# Altium footprint library PcbLib1.PcbLib: 8 footprints
Each footprint in its own frame and in the unit in brackets; x right, y up, seen from the top. Pads: shape width x height; smd on the part's side, far side on the other; paste and mask are expansions set on the pad; w line width, h text height; cw(c..) or ccw(c..) is an arc to the next point about the centre after c.
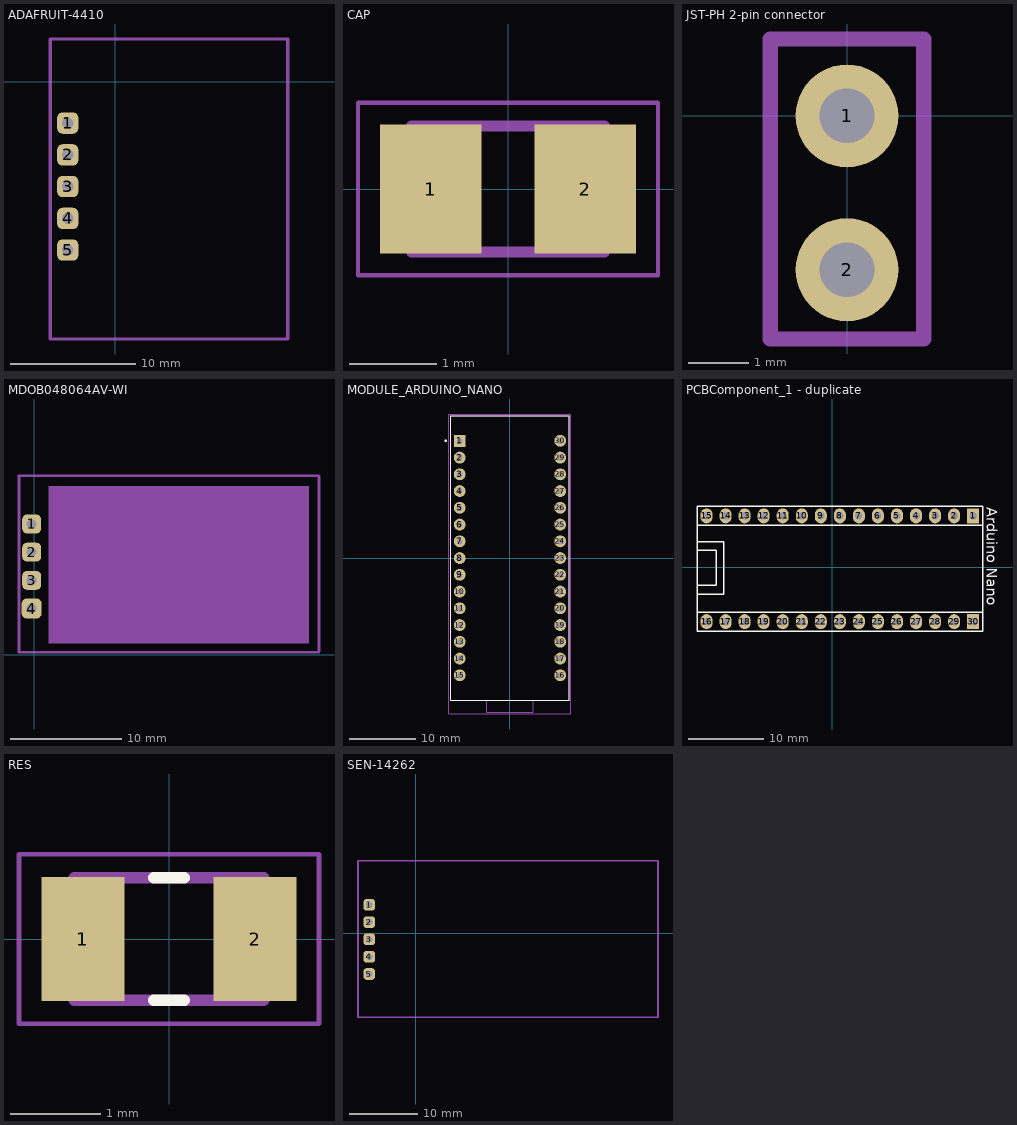
[diagram p0: the footprints below, top view; thin cyan lines are the x and y axes]

## ADAFRUIT-4410 [mm]
pads (5):
  rrect50% 1.7x1.7 hole 0.9 square: 1(-3.81,-3.302) 2(-3.81,-5.842) 3(-3.81,-8.382) 4(-3.81,-10.922) 5(-3.81,-13.462)
Top Overlay:
  text ".Designator" at 5.715,-16.002 h1.52
Mechanical 1:
  lines w0.254: -5.207,-20.574 -5.207,3.429 13.793,3.429 13.793,-20.574 -5.207,-20.574
3D body "4410 Micro Lipo USBC.step": height 6.37, standoff 0, extent -5.207,-20.564 13.843,3.419

## CAP [mm]
pads (2):
  rect 1.16x1.47 smd: 1(-0.88,0) 2(0.88,0)
Mechanical 13:
  lines w0.127: -1.1,-0.72 1.1,-0.72 1.1,0.72 -1.1,0.72 -1.1,-0.72
Mechanical 15:
  lines w0.05: -1.713,-0.983 1.713,-0.983 1.713,0.983 -1.713,0.983 -1.713,-0.983
3D body "step_temp.STEP": height 0.94, standoff 0, extent -1.005,-0.625 1.005,0.625

## JST-PH 2-pin connector [mm]
pads (2):
  round 1.7 hole 0.9: 1(0,0) 2(0,-2.54)
Top Overlay:
  text ".Designator" at -7.747,-1.651 h1.52
Mechanical 1:
  lines w0.254: -1.27,-3.683 1.27,-3.683 1.27,1.27 -1.27,1.27 -1.27,-3.683

## MDOB048064AV-WI [mm]
pads (4):
  rrect50% 1.7x1.7 hole 0.9 square: 1(-0.254,11.811) 2(-0.254,9.271) 3(-0.254,6.731)
  rrect50% 1.8x1.8 hole 0.9 square: 4(-0.254,4.191)
Top Overlay:
  text ".Designator" at 5.08,7.62 h1.52
Mechanical 1:
  rectangle: 17.399,8.509 17.526,13.081
  rectangle: 1.27,1.016 24.765,15.24
  lines w0.254: 25.603,16.154 -1.397,16.154 -1.397,0.254 25.603,0.254 25.654,0.305 25.654,16.129
3D body: height 1.27, standoff 0, extent -1.27,13.589 1.27,16.129
3D body: height 1.27, standoff 0, extent -1.27,0.381 1.27,2.921
3D body: height 0.25, standoff 0, extent 1.143,0.254 25.628,16.154
3D body: height 2.54, standoff 0.25, extent 3.302,0.254 22.733,16.129

## MODULE_ARDUINO_NANO [mm]
pads (30):
  rect 1.8x1.8 / inner round 1.8 / far side rect 1.8x1.8 hole 0.9: 1(-7.62,17.78)
  round 1.8 hole 0.9: 2(-7.62,15.24) 3(-7.62,12.7) 4(-7.62,10.16) 5(-7.62,7.62) 6(-7.62,5.08) 7(-7.62,2.54) 8(-7.62,0) 9(-7.62,-2.54) 10(-7.62,-5.08) 11(-7.62,-7.62) 12(-7.62,-10.16) 13(-7.62,-12.7) 14(-7.62,-15.24) 15(-7.62,-17.78) 16(7.62,-17.78) 17(7.62,-15.24) 18(7.62,-12.7) 19(7.62,-10.16) 20(7.62,-7.62) 21(7.62,-5.08) 22(7.62,-2.54) 23(7.62,0) 24(7.62,2.54) 25(7.62,5.08) 26(7.62,7.62) 27(7.62,10.16) 28(7.62,12.7) 29(7.62,15.24) 30(7.62,17.78)
Top Overlay:
  circle w0.2: c-9.75,17.78 r0.1
  lines w0.127: -9,-21.6 9,-21.6 9,21.6 -9,21.6 -9,-21.6
Mechanical 13:
  circle w0.2: c-9.75,17.78 r0.1
  lines w0.127: -3.5,-21.6 3.5,-21.6 ; -3.5,-21.6 -9,-21.6 -9,21.6 9,21.6 9,-21.6 3.5,-21.6 ; -3.5,-21.6 -3.5,-23.4 3.5,-23.4 3.5,-21.6
Mechanical 15:
  lines w0.05: -9.25,-23.65 -9.25,21.85 9.25,21.85 9.25,-23.65 -9.25,-23.65
3D body "step_temp.STEP": height 23.4, standoff -21.6, extent -9,-6 9,12.6

## PCBComponent_1 - duplicate [mm]
pads (30):
  rect 1.6x2 hole 1: 1(18.796,6.858) 30(18.796,-7.239)
  oval 1.6x2 hole 1: 2(16.256,6.858) 3(13.716,6.858) 4(11.176,6.858) 5(8.636,6.858) 6(6.096,6.858) 7(3.556,6.858) 8(1.016,6.858) 9(-1.524,6.858) 10(-4.064,6.858) 11(-6.604,6.858) 12(-9.144,6.858) 13(-11.684,6.858) 14(-14.224,6.858) 15(-16.764,6.858) 16(-16.764,-7.239) 17(-14.224,-7.239) 18(-11.684,-7.239) 19(-9.144,-7.239) 20(-6.604,-7.239) 21(-4.064,-7.239) 22(-1.524,-7.239) 23(1.016,-7.239) 24(3.556,-7.239) 25(6.096,-7.239) 26(8.636,-7.239) 27(11.176,-7.239) 28(13.716,-7.239) 29(16.256,-7.239)
Top Overlay:
  lines w0.2: -18.034,-7.493 -18.034,6.858 ; -18.034,-3.429 -18.034,-3.556 -14.478,-3.556 -14.478,3.429 -18.034,3.429 ; -18.034,-2.413 -15.494,-2.413 -15.494,2.286 -18.034,2.286 ; 20.066,-8.128 20.066,8.001 ; -18.034,-8.509 18.161,-8.509 20.066,-8.509 20.066,-5.969 -18.034,-5.969 -18.034,-8.509 ; -18.034,5.588 18.161,5.588 20.066,5.588 20.066,8.128 -18.034,8.128 -18.034,5.588
  text "Arduino Nano" at 20.574,8.001 h1.4
3D body "step_temp.STEP": height 15.14, standoff -3.46, extent -21.505,-9.127 23.495,8.873

## RES [mm]
pads (2):
  rect 0.92x1.38 smd: 1(-0.955,0) 2(0.955,0)
Top Overlay:
  lines w0.127: -0.17,-0.68 0.17,-0.68 ; -0.17,0.68 0.17,0.68
Mechanical 13:
  lines w0.127: -1.05,-0.68 -1.05,0.68 1.05,0.68 1.05,-0.68 -1.05,-0.68
Mechanical 15:
  lines w0.05: -1.665,-0.94 -1.665,0.94 1.665,0.94 1.665,-0.94 -1.665,-0.94
3D body "step_temp.STEP": height 0.6, standoff 0, extent -1,-0.625 1,0.625

## SEN-14262 [mm]
pads (5):
  rrect50% 1.7x1.7 hole 0.9 square: 1(-6.858,4.191) 2(-6.858,1.651) 3(-6.858,-0.889) 4(-6.858,-3.429) 5(-6.858,-5.969)
Top Overlay:
  text ".Designator" at 6.604,-1.143 h1.52
Mechanical 1:
  lines w0.254: -8.509,-12.319 35.56,-12.319 35.56,10.668 -8.509,10.668 -8.509,-12.319
3D body: height 1.27, standoff 0, extent 8.064,-3.683 20.637,2.159
3D body: height 1.27, standoff 0, extent -8.128,-11.43 -5.588,-8.89
3D body: height 1.27, standoff 0, extent -8.128,7.493 -5.588,10.033
3D body: height 2.54, standoff 0, extent 24.765,-5.715 34.925,4.445
3D body: height 0.25, standoff 0, extent -5.143,-12.383 35.623,10.604
3D body: height 1.27, standoff 0, extent 8.382,4.953 18.796,9.525